# Altium footprint library CAP 16V.PcbLib: 2 footprints
Each footprint in its own frame and in the unit in brackets; x right, y up, seen from the top. Pads: shape width x height; smd on the part's side, far side on the other; paste and mask are expansions set on the pad; w line width, h text height; cw(c..) or ccw(c..) is an arc to the next point about the centre after c.
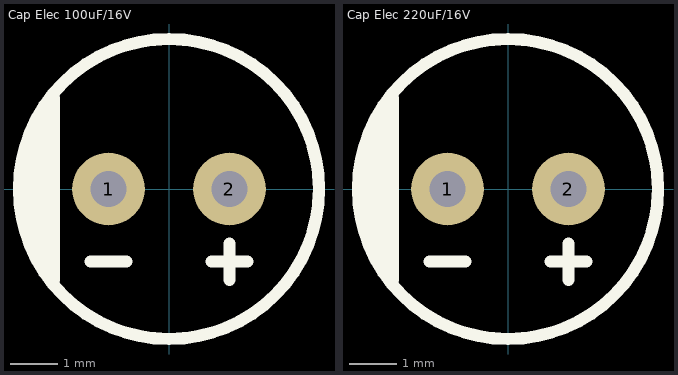
[diagram p0: the footprints below, top view; thin cyan lines are the x and y axes]

## Cap Elec 100uF/16V [mil] "100µF 16V Aluminum Electrolytic Capacitors Radial"
pads (2):
  round 60 hole 30: 1(-50,0) 2(50,0)
Top Overlay:
  circle w10: c0,0 r124.02
  lines w10: -115,45 -115,-40 -110,-45 -110,50 ; -105,-60 -105,60 -100,65 -100,-70 ; -95,-75 -95,75 ; -65,-60 -35,-60 ; 35,-60 65,-60 ; 50,-75 50,-45
3D body "User Library-Cap-EL(6_3x11-2_5).step": height 433.15, standoff -125.98, extent -124.01,-123.98 124.1,123.99

## Cap Elec 220uF/16V [mil] "220µF 16V Aluminum Electrolytic Capacitors Radial"
pads (2):
  round 60 hole 30: 1(-50,0) 2(50,0)
Top Overlay:
  circle w10: c0,0 r124.02
  lines w10: -115,45 -115,-40 -110,-45 -110,50 ; -105,-60 -105,60 -100,65 -100,-70 ; -95,-75 -95,75 ; -65,-60 -35,-60 ; 35,-60 65,-60 ; 50,-75 50,-45
3D body "User Library-Cap-EL(6_3x11-2_5).step": height 433.15, standoff -125.98, extent -124.01,-123.98 124.1,123.99